# EAGLE library part GX16-8 (library fcch_eagle_parts_metal_mill)
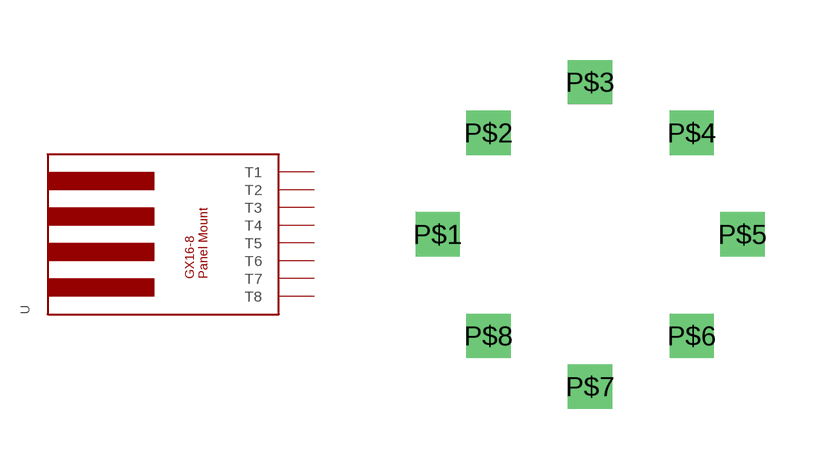
[diagram p3: symbol with the pads of GX16-8; footprint GX16-8]

Designator prefix -

## GX16-8  [GX16-8]
P$1  T1
P$2  T2
P$3  T3
P$4  T4
P$5  T5
P$6  T6
P$7  T7
P$8  T8

## Footprint GX16-8 (pad centres in mm)
drill 0.6 square: P$1 -3.81,0; P$2 -2.54,2.54; P$3 0,3.81; P$4 2.54,2.54; P$5 3.81,0; P$6 2.54,-2.54; P$7 0,-3.81; P$8 -2.54,-2.54